# Altium integrated library Resistor 0805.IntLib: 58 symbols
Pins are listed as number, name and electrical type; pins without a type are passive.

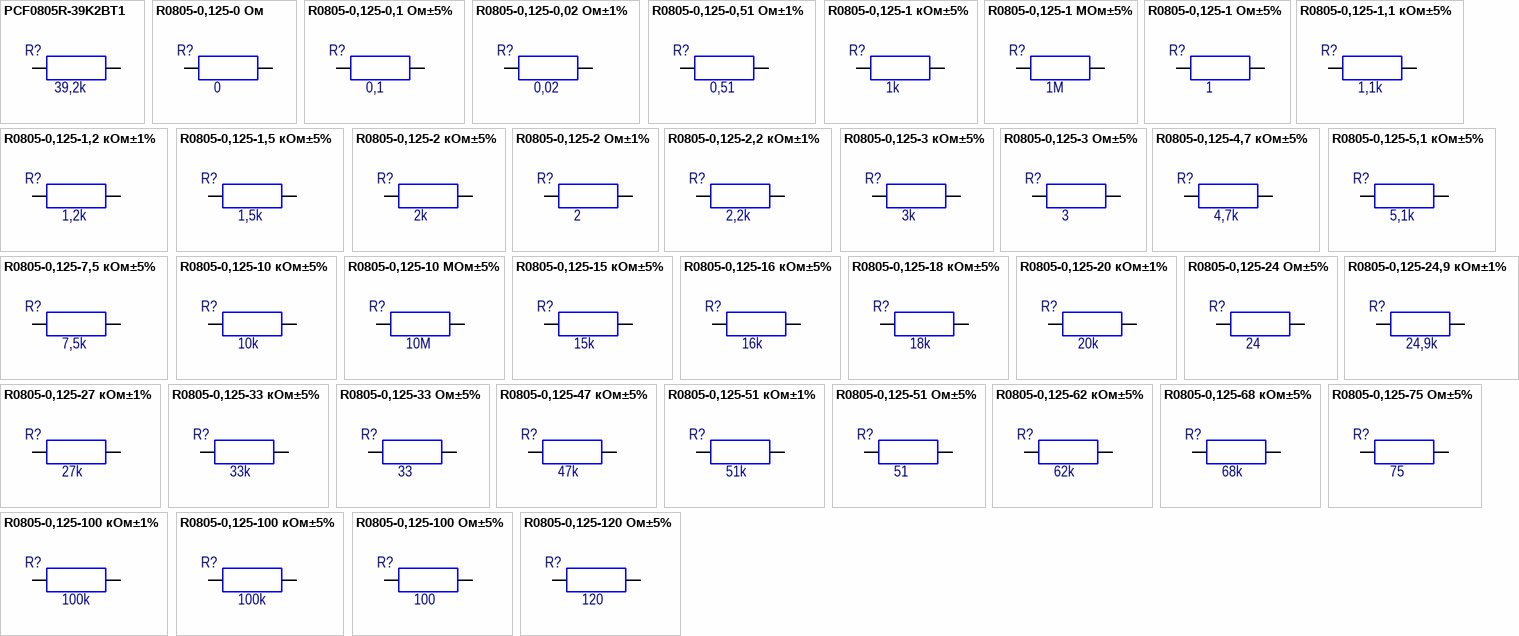
[diagram p0: symbols PCF0805R-39K2BT1 to R0805-0,125-120 Ом±5%]

## PCF0805R-39K2BT1
designator R?  value 39,2k  (hidden comment: PCF0805R-39K2BT1)
RES 39.2K OHM 0.1W 0805 0.1% SMD; Manufacturer: TT Electronics/Welwyn; Group: 9130; RegulationProcent: 10; TypeName: Резистор; Distributor: Mouser; DistributorPartNumber: 756-PCF0805R-39K2BT1; LatestRevisionDate: 09.07.2013; Library: Resistor 0805; ManufacturerPartNumber: PCF0805R-39K2BT1; Package: 2012 [0805]; Published: 08.07.2013; Publisher: Konon DI
footprint RESC2012N [0805] (Chip Resistor, Body 2.0x1.3mm, IPC Medium Density)
pins: 1, 2

## R0805-0,125-0 Ом
designator R?  value 0
RES SMD 0.0 OHM JUMPER 1/8W 0805; Manufacturer: Vishay Dale; ManufacturerPartNumber: CRCW08050000Z0; Group: 9130; RegulationProcent: 10; TypeName: Резистор; Distributor: Digi-Key; DistributorPartNumber: 541-0.0ACT-ND; LatestRevisionDate: 14.07.2017; Library: Resistor 0805; Package: 2012 [0805]; Published: 14.07.2017; Publisher: Stanchik A
footprint RESC2012N [0805] (Chip Resistor, Body 2.0x1.3mm, IPC Medium Density)
pins: 1, 2

## R0805-0,125-0,1 Ом±5%
designator R?  value 0,1
RES 0,1 OHM 1/3W 5% 0805 SMD; Manufacturer: Rohm Semiconductor; ManufacturerPartNumber: UCR10EVHJLR10; Group: 9130; RegulationProcent: 10; TypeName: Резистор; Distributor: Digi-Key; DistributorPartNumber: RHM.10BXDKR-ND; LatestRevisionDate: 29.11.2013; Library: Resistor 0805; Package: 2012 [0805]; Published: 29.11.2013; Publisher: Stanchik A
footprint RESC2012N [0805] (Chip Resistor, Body 2.0x1.3mm, IPC Medium Density)
pins: 1, 2

## R0805-0,125-0,02 Ом±1%
designator R?  value 0,02
RES SMD 0.02 OHM 1% 1/8W 0805; Manufacturer: Vishay Dale; ManufacturerPartNumber: WSL0805R0200F; Group: 9130; RegulationProcent: 10; TypeName: Резистор; Distributor: Digi-Key; DistributorPartNumber: WSLA-.02CT-ND; LatestRevisionDate: 16.07.2015; Library: Resistor 0805; Package: 2012 [0805]; Published: 16.07.2015; Publisher: Stanchik A
footprint RESC2012N [0805] (Chip Resistor, Body 2.0x1.3mm, IPC Medium Density)
pins: 1, 2

## R0805-0,125-0,51 Ом±1%
designator R?  value 0,51
RES SMD 0.51 OHM 1% 1/4W 0805; Manufacturer: Vishay Dale; ManufacturerPartNumber: RCWE0805R510FK; Group: 9130; RegulationProcent: 10; TypeName: Резистор; Distributor: Digi-Key; DistributorPartNumber: RCWE.51DCT-ND; LatestRevisionDate: 16.02.2016; Library: Resistor 0805; Package: 2012 [0805]; Published: 16.02.2016; Publisher: Stanchik A
footprint RESC2012N [0805] (Chip Resistor, Body 2.0x1.3mm, IPC Medium Density)
pins: 1, 2

## R0805-0,125-1 кОм±5%
designator R?  value 1k
RES 1.0K OHM 1/8W 5% 0805 SMD; Manufacturer: Vishay Dale; ManufacturerPartNumber: CRCW08051K00JN; Group: 9130; RegulationProcent: 10; TypeName: Резистор; Distributor: Digi-Key; DistributorPartNumber: 541-1.0KACT-ND; LatestRevisionDate: 10.07.2013; Library: Resistor 0805; Package: 2012 [0805]; Published: 10.07.2013; Publisher: Konon DI
footprint RESC2012N [0805] (Chip Resistor, Body 2.0x1.3mm, IPC Medium Density)
pins: 1, 2

## R0805-0,125-1 МОм±5%
designator R?  value 1M
RES SMD 1M OHM 5% 1/8W 0805; Manufacturer: Vishay Dale; ManufacturerPartNumber: CRCW08051M00JN; Group: 9130; RegulationProcent: 10; TypeName: Резистор; Distributor: Digi-Key; DistributorPartNumber: 541-1.0MACT-ND; LatestRevisionDate: 10.12.2015; Library: Resistor 0805; Package: 2012 [0805]; Published: 10.12.2015; Publisher: Stanchik A
footprint RESC2012N [0805] (Chip Resistor, Body 2.0x1.3mm, IPC Medium Density)
pins: 1, 2

## R0805-0,125-1 Ом±5%
designator R?  value 1
RES 1.0 OHM 1/8W 5% 0805 SMD; Manufacturer: Vishay Dale; ManufacturerPartNumber: CRCW08051R00JN; Group: 9130; RegulationProcent: 10; TypeName: Резистор; Distributor: Digi-Key; DistributorPartNumber: 541-1.0ADKR-ND; LatestRevisionDate: 22.07.2014; Library: Resistor 0805; Package: 2012 [0805]; Published: 22.07.2014; Publisher: Stanchik A
footprint RESC2012N [0805] (Chip Resistor, Body 2.0x1.3mm, IPC Medium Density)
pins: 1, 2

## R0805-0,125-1,1 кОм±5%
designator R?  value 1,1k
RES 1.1K OHM 1/8W 5% 0805 SMD; Manufacturer: Vishay Dale; ManufacturerPartNumber: CRCW08051K10JN; Group: 9130; RegulationProcent: 10; TypeName: Резистор; Distributor: Digi-Key; DistributorPartNumber: 541-1.1KACT-ND; LatestRevisionDate: 10.07.2013; Library: Resistor 0805; Package: 2012 [0805]; Published: 10.07.2013; Publisher: Konon DI
footprint RESC2012N [0805] (Chip Resistor, Body 2.0x1.3mm, IPC Medium Density)
pins: 1, 2

## R0805-0,125-1,2 кОм±1%
designator R?  value 1,2k
RES SMD 1.2K OHM 1% 1/8W 0805; Manufacturer: Vishay Dale; ManufacturerPartNumber: CRCW08051K20FK; Group: 9130; RegulationProcent: 10; TypeName: Резистор; Distributor: Digi-Key; DistributorPartNumber: 541-1.20KCCT-ND; LatestRevisionDate: 06.06.2017; Library: Resistor 0805; Package: 2012 [0805]; Published: 06.06.2017; Publisher: Stanchik A
footprint RESC2012N [0805] (Chip Resistor, Body 2.0x1.3mm, IPC Medium Density)
pins: 1, 2

## R0805-0,125-1,5 кОм±5%
designator R?  value 1,5k
RES SMD 1.5K OHM 5% 1/8W 0805; Manufacturer: Vishay Dale; ManufacturerPartNumber: CRCW08051K50JN; Group: 9130; RegulationProcent: 10; TypeName: Резистор; Distributor: Digi-Key; DistributorPartNumber: 541-1.5KACT-ND; LatestRevisionDate: 24.01.2017; Library: Resistor 0805; Package: 2012 [0805]; Published: 24.01.2017; Publisher: Stanchik A
footprint RESC2012N [0805] (Chip Resistor, Body 2.0x1.3mm, IPC Medium Density)
pins: 1, 2

## R0805-0,125-2 кОм±5%
designator R?  value 2k
RES 2.0K OHM 1/8W 5% 0805 SMD; Manufacturer: Vishay Dale; ManufacturerPartNumber: CRCW08052K00JN; Group: 9130; RegulationProcent: 10; TypeName: Резистор; Distributor: Digi-Key; DistributorPartNumber: 541-2.0KADKR-ND; LatestRevisionDate: 06.08.2014; Library: Resistor 0805; Package: 2012 [0805]; Published: 06.08.2014; Publisher: Stanchik A
footprint RESC2012N [0805] (Chip Resistor, Body 2.0x1.3mm, IPC Medium Density)
pins: 1, 2

## R0805-0,125-2 Ом±1%
designator R?  value 2
RES 2.00 OHM 1/8W 1% 0805 SMD; Manufacturer: Vishay Dale; ManufacturerPartNumber: CRCW08052R00FK; Group: 9130; RegulationProcent: 10; TypeName: Резистор; Distributor: Digi-Key; DistributorPartNumber: 541-2.00CCDKR-ND; LatestRevisionDate: 09.07.2014; Library: Resistor 0805; Package: 2012 [0805]; Published: 09.07.2014; Publisher: Stanchik A
footprint RESC2012N [0805] (Chip Resistor, Body 2.0x1.3mm, IPC Medium Density)
pins: 1, 2

## R0805-0,125-2,2 кОм±1%
designator R?  value 2,2k
RES SMD 2.2K OHM 1% 1/8W 0805; Manufacturer: Vishay Dale; ManufacturerPartNumber: CRCW08052K20FK; Group: 9130; RegulationProcent: 10; TypeName: Резистор; Distributor: Digi-Key; DistributorPartNumber: 541-2.20KCCT-ND; LatestRevisionDate: 22.12.2016; Library: Resistor 0805; Package: 2012 [0805]; Published: 22.12.2016; Publisher: Stanchik A
footprint RESC2012N [0805] (Chip Resistor, Body 2.0x1.3mm, IPC Medium Density)
pins: 1, 2

## R0805-0,125-3 кОм±5%
designator R?  value 3k
RES SMD 3K OHM 5% 1/8W 0805; Manufacturer: Vishay Dale; ManufacturerPartNumber: CRCW08053K00JN; Group: 9130; RegulationProcent: 10; TypeName: Резистор; Distributor: Digi-Key; DistributorPartNumber: 541-3.0KACT-ND; LatestRevisionDate: 24.01.2017; Library: Resistor 0805; Package: 2012 [0805]; Published: 24.01.2017; Publisher: Stanchik A
footprint RESC2012N [0805] (Chip Resistor, Body 2.0x1.3mm, IPC Medium Density)
pins: 1, 2

## R0805-0,125-3 Ом±5%
designator R?  value 3
RES 3.0 OHM 1/8W 5% 0805 SMD; Manufacturer: Vishay Dale; ManufacturerPartNumber: CRCW08053R00JN; Group: 9130; RegulationProcent: 10; TypeName: Резистор; Distributor: Digi-Key; DistributorPartNumber: 541-3.0ADKR-ND; LatestRevisionDate: 09.07.2014; Library: Resistor 0805; Package: 2012 [0805]; Published: 09.07.2014; Publisher: Stanchik A
footprint RESC2012N [0805] (Chip Resistor, Body 2.0x1.3mm, IPC Medium Density)
pins: 1, 2

## R0805-0,125-4,7 кОм±5%
designator R?  value 4,7k
RES 4,7K OHM 0,33W 5% 0805 SMD; Manufacturer: Vishay Dale; ManufacturerPartNumber: CRCW08054K70JN; Group: 9130; RegulationProcent: 10; TypeName: Резистор; Distributor: Digi-Key; DistributorPartNumber: 541-4.7KTADKR-ND; LatestRevisionDate: 29.11.2013; Library: Resistor 0805; Package: 2012 [0805]; Published: 29.11.2013; Publisher: Stanchik A
footprint RESC2012N [0805] (Chip Resistor, Body 2.0x1.3mm, IPC Medium Density)
pins: 1, 2

## R0805-0,125-5,1 кОм±5%
designator R?  value 5,1k
RES 5.1K OHM 1/8W 5% 0805 SMD; Manufacturer: Vishay Dale; ManufacturerPartNumber: CRCW08055K10JN; Group: 9130; RegulationProcent: 10; TypeName: Резистор; Distributor: Digi-Key; DistributorPartNumber: 541-5.1KADKR-ND; LatestRevisionDate: 09.07.2014; Library: Resistor 0805; Package: 2012 [0805]; Published: 09.07.2014; Publisher: Stanchik A
footprint RESC2012N [0805] (Chip Resistor, Body 2.0x1.3mm, IPC Medium Density)
pins: 1, 2

## R0805-0,125-7,5 кОм±5%
designator R?  value 7,5k
RES SMD 7.5K OHM 5% 1/8W 0805; Manufacturer: Vishay Dale; ManufacturerPartNumber: CRCW08057K50JN; Group: 9130; RegulationProcent: 10; TypeName: Резистор; Distributor: Digi-Key; DistributorPartNumber: 541-7.5KACT-ND; LatestRevisionDate: 06.06.2017; Library: Resistor 0805; Package: 2012 [0805]; Published: 06.06.2017; Publisher: Stanchik A
footprint RESC2012N [0805] (Chip Resistor, Body 2.0x1.3mm, IPC Medium Density)
pins: 1, 2

## R0805-0,125-10 кОм±5%
designator R?  value 10k
RES 10K OHM 1/8W 5% 0805 SMD; Manufacturer: Vishay Dale; ManufacturerPartNumber: CRCW080510K0JN; Group: 9130; RegulationProcent: 10; TypeName: Резистор; Distributor: Digi-Key; DistributorPartNumber: 541-10KADKR-ND; LatestRevisionDate: 09.07.2014; Library: Resistor 0805; Package: 2012 [0805]; Published: 09.07.2014; Publisher: Stanchik A
footprint RESC2012N [0805] (Chip Resistor, Body 2.0x1.3mm, IPC Medium Density)
pins: 1, 2

## R0805-0,125-10 МОм±5%
designator R?  value 10M
RES SMD 10M OHM 5% 1/8W 0805; Manufacturer: Vishay Dale; ManufacturerPartNumber: CRCW080510M0JN; Group: 9130; RegulationProcent: 10; TypeName: Резистор; Distributor: Digi-Key; DistributorPartNumber: 541-10MACT-ND; LatestRevisionDate: 22.02.2016; Library: Resistor 0805; Package: 2012 [0805]; Published: 22.02.2016; Publisher: Stanchik A
footprint RESC2012N [0805] (Chip Resistor, Body 2.0x1.3mm, IPC Medium Density)
pins: 1, 2

## R0805-0,125-15 кОм±5%
designator R?  value 15k
RES 15K OHM 1/8W 5% 0805 SMD; Manufacturer: Vishay Dale; ManufacturerPartNumber: CRCW080515K0JN; Group: 9130; RegulationProcent: 10; TypeName: Резистор; Distributor: Digi-Key; DistributorPartNumber: 541-15KADKR-ND; LatestRevisionDate: 05.08.2014; Library: Resistor 0805; Package: 2012 [0805]; Published: 05.08.2014; Publisher: Stanchik A
footprint RESC2012N [0805] (Chip Resistor, Body 2.0x1.3mm, IPC Medium Density)
pins: 1, 2

## R0805-0,125-16 кОм±5%
designator R?  value 16k
RES SMD 16K OHM 5% 1/8W 0805; Manufacturer: Vishay Dale; ManufacturerPartNumber: CRCW080516K0JN; Group: 9130; RegulationProcent: 10; TypeName: Резистор; Distributor: Digi-Key; DistributorPartNumber: 541-16KACT-ND; LatestRevisionDate: 18.09.2017; Library: Resistor 0805; Package: 2012 [0805]; Published: 18.09.2017; Publisher: Stanchik A
footprint RESC2012N [0805] (Chip Resistor, Body 2.0x1.3mm, IPC Medium Density)
pins: 1, 2

## R0805-0,125-18 кОм±5%
designator R?  value 18k
RES 18K OHM 1/8W 5% 0805 SMD; Manufacturer: Vishay Dale; ManufacturerPartNumber: CRCW080518K0JN; Group: 9130; RegulationProcent: 10; TypeName: Резистор; Distributor: Digi-Key; DistributorPartNumber: 541-18KADKR-ND; LatestRevisionDate: 05.08.2014; Library: Resistor 0805; Package: 2012 [0805]; Published: 05.08.2014; Publisher: Stanchik A
footprint RESC2012N [0805] (Chip Resistor, Body 2.0x1.3mm, IPC Medium Density)
pins: 1, 2

## R0805-0,125-20 кОм±1%
designator R?  value 20k
RES SMD 20K OHM 1% 1/8W 0805; Manufacturer: Vishay Dale; ManufacturerPartNumber: CRCW080520K0FK; Group: 9130; RegulationProcent: 10; TypeName: Резистор; Distributor: Digi-Key; DistributorPartNumber: 541-20.0KCCT-ND; LatestRevisionDate: 22.09.2016; Library: Resistor 0805; Package: 2012 [0805]; Published: 22.09.2016; Publisher: Stanchik A
footprint RESC2012N [0805] (Chip Resistor, Body 2.0x1.3mm, IPC Medium Density)
pins: 1, 2

## R0805-0,125-24 Ом±5%
designator R?  value 24
RES SMD 24 OHM 5% 1/8W 0805; Manufacturer: Vishay Dale; ManufacturerPartNumber: CRCW080524R0JN; Group: 9130; RegulationProcent: 10; TypeName: Резистор; Distributor: Digi-Key; DistributorPartNumber: 541-24ACT-ND; LatestRevisionDate: 24.01.2017; Library: Resistor 0805; Package: 2012 [0805]; Published: 24.01.2017; Publisher: Stanchik A
footprint RESC2012N [0805] (Chip Resistor, Body 2.0x1.3mm, IPC Medium Density)
pins: 1, 2

## R0805-0,125-24,9 кОм±1%
designator R?  value 24,9k
RES 24.9K OHM 1/8W 1% 0805 SMD; Manufacturer: Vishay Dale; ManufacturerPartNumber: CRCW080524K9FK; Group: 9130; RegulationProcent: 10; TypeName: Резистор; Distributor: Digi-Key; DistributorPartNumber: 541-24.9KCDKR-ND; LatestRevisionDate: 05.08.2014; Library: Resistor 0805; Package: 2012 [0805]; Published: 05.08.2014; Publisher: Stanchik A
footprint RESC2012N [0805] (Chip Resistor, Body 2.0x1.3mm, IPC Medium Density)
pins: 1, 2

## R0805-0,125-27 кОм±1%
designator R?  value 27k
RES SMD 27K OHM 1% 1/8W 0805; Manufacturer: Vishay Dale; ManufacturerPartNumber: CRCW080527K0FK; Group: 9130; RegulationProcent: 10; TypeName: Резистор; Distributor: Digi-Key; DistributorPartNumber: 541-27.0KCCT-ND; LatestRevisionDate: 06.06.2017; Library: Resistor 0805; Package: 2012 [0805]; Published: 06.06.2017; Publisher: Stanchik A
footprint RESC2012N [0805] (Chip Resistor, Body 2.0x1.3mm, IPC Medium Density)
pins: 1, 2

## R0805-0,125-33 кОм±5%
designator R?  value 33k
RES 33K OHM 1/8W 5% 0805 SMD; Manufacturer: Vishay Dale; ManufacturerPartNumber: CRCW080533K0JN; Group: 9130; RegulationProcent: 10; TypeName: Резистор; Distributor: Digi-Key; DistributorPartNumber: 541-33KADKR-ND; LatestRevisionDate: 22.07.2014; Library: Resistor 0805; Package: 2012 [0805]; Published: 22.07.2014; Publisher: Stanchik A
footprint RESC2012N [0805] (Chip Resistor, Body 2.0x1.3mm, IPC Medium Density)
pins: 1, 2

## R0805-0,125-33 Ом±5%
designator R?  value 33
RES 33 OHM 1/8W 5% 0805 SMD; Manufacturer: Vishay Dale; ManufacturerPartNumber: CRCW080533R0JN; Group: 9130; RegulationProcent: 10; TypeName: Резистор; Distributor: Digi-Key; DistributorPartNumber: 541-33ADKR-ND; LatestRevisionDate: 29.11.2013; Library: Resistor 0805; Package: 2012 [0805]; Published: 29.11.2013; Publisher: Stanchik A
footprint RESC2012N [0805] (Chip Resistor, Body 2.0x1.3mm, IPC Medium Density)
pins: 1, 2

## R0805-0,125-47 кОм±5%
designator R?  value 47k
RES 47K OHM 1/8W 5% 0805 SMD; Manufacturer: Vishay Dale; ManufacturerPartNumber: CRCW080547K0JN; Group: 9130; RegulationProcent: 10; TypeName: Резистор; Distributor: Digi-Key; DistributorPartNumber: 541-47KADKR-ND; LatestRevisionDate: 06.08.2014; Library: Resistor 0805; Package: 2012 [0805]; Published: 06.08.2014; Publisher: Stanchik A
footprint RESC2012N [0805] (Chip Resistor, Body 2.0x1.3mm, IPC Medium Density)
pins: 1, 2

## R0805-0,125-51 кОм±1%
designator R?  value 51k
RES 51.0K OHM 1/8W 1% 0805 SMD; Manufacturer: Vishay Dale; ManufacturerPartNumber: CRCW080551K0FK; Group: 9130; RegulationProcent: 10; TypeName: Резистор; Distributor: Digi-Key; DistributorPartNumber: 541-51.0KCDKR-ND; LatestRevisionDate: 06.08.2014; Library: Resistor 0805; Package: 2012 [0805]; Published: 06.08.2014; Publisher: Stanchik A
footprint RESC2012N [0805] (Chip Resistor, Body 2.0x1.3mm, IPC Medium Density)
pins: 1, 2

## R0805-0,125-51 Ом±5%
designator R?  value 51
RES SMD 51 OHM 5% 1/8W 0805; Manufacturer: Vishay Dale; ManufacturerPartNumber: CRCW080551R0JN; Group: 9130; RegulationProcent: 10; TypeName: Резистор; Distributor: Digi-Key; DistributorPartNumber: 541-51ACT-ND; LatestRevisionDate: 24.01.2017; Library: Resistor 0805; Package: 2012 [0805]; Published: 24.01.2017; Publisher: Stanchik A
footprint RESC2012N [0805] (Chip Resistor, Body 2.0x1.3mm, IPC Medium Density)
pins: 1, 2

## R0805-0,125-62 кОм±5%
designator R?  value 62k
RES 62K OHM 1/8W 5% 0805 SMD; Manufacturer: Vishay Dale; ManufacturerPartNumber: CRCW080562K0JN; Group: 9130; RegulationProcent: 10; TypeName: Резистор; Distributor: Digi-Key; DistributorPartNumber: 541-62KADKR-ND; LatestRevisionDate: 05.08.2014; Library: Resistor 0805; Package: 2012 [0805]; Published: 05.08.2014; Publisher: Stanchik A
footprint RESC2012N [0805] (Chip Resistor, Body 2.0x1.3mm, IPC Medium Density)
pins: 1, 2

## R0805-0,125-68 кОм±5%
designator R?  value 68k
RES 68K OHM 1/8W 5% 0805 SMD; Manufacturer: Vishay Dale; ManufacturerPartNumber: CRCW080568K0JN; Group: 9130; RegulationProcent: 10; TypeName: Резистор; Distributor: Digi-Key; DistributorPartNumber: 541-68KADKR-ND; LatestRevisionDate: 09.07.2014; Library: Resistor 0805; Package: 2012 [0805]; Published: 09.07.2014; Publisher: Stanchik A
footprint RESC2012N [0805] (Chip Resistor, Body 2.0x1.3mm, IPC Medium Density)
pins: 1, 2

## R0805-0,125-75 Ом±5%
designator R?  value 75
RES 75 OHM 1/8W 5% 0805 SMD; Manufacturer: Vishay Dale; ManufacturerPartNumber: CRCW080575R0JN; Group: 9130; RegulationProcent: 10; TypeName: Резистор; Distributor: Digi-Key; DistributorPartNumber: 541-75ADKR-ND; LatestRevisionDate: 09.07.2014; Library: Resistor 0805; Package: 2012 [0805]; Published: 09.07.2014; Publisher: Stanchik A
footprint RESC2012N [0805] (Chip Resistor, Body 2.0x1.3mm, IPC Medium Density)
pins: 1, 2

## R0805-0,125-100 кОм±1%
designator R?  value 100k
RES 100K OHM 1/8W 1% 0805 SMD; Manufacturer: Vishay Dale; ManufacturerPartNumber: CRCW0805100KFK; Group: 9130; RegulationProcent: 10; TypeName: Резистор; Distributor: Digi-Key; DistributorPartNumber: 541-100KCDKR-ND; LatestRevisionDate: 05.08.2014; Library: Resistor 0805; Package: 2012 [0805]; Published: 05.08.2014; Publisher: Stanchik A
footprint RESC2012N [0805] (Chip Resistor, Body 2.0x1.3mm, IPC Medium Density)
pins: 1, 2

## R0805-0,125-100 кОм±5%
designator R?  value 100k
RES 100K OHM 1/8W 5% 0805 SMD; Manufacturer: Vishay Dale; ManufacturerPartNumber: CRCW0805100KJN; Group: 9130; RegulationProcent: 10; TypeName: Резистор; Distributor: Digi-Key; DistributorPartNumber: 541-100KADKR-ND; LatestRevisionDate: 06.08.2014; Library: Resistor 0805; Package: 2012 [0805]; Published: 06.08.2014; Publisher: Stanchik A
footprint RESC2012N [0805] (Chip Resistor, Body 2.0x1.3mm, IPC Medium Density)
pins: 1, 2

## R0805-0,125-100 Ом±5%
designator R?  value 100
RES 100 OHM 1/8W 5% 0805 SMD; Manufacturer: Vishay Dale; ManufacturerPartNumber: CRCW0805100RJN; Group: 9130; RegulationProcent: 10; TypeName: Резистор; Distributor: Digi-Key; DistributorPartNumber: 541-100ADKR-ND; LatestRevisionDate: 09.07.2014; Library: Resistor 0805; Package: 2012 [0805]; Published: 09.07.2014; Publisher: Stanchik A
footprint RESC2012N [0805] (Chip Resistor, Body 2.0x1.3mm, IPC Medium Density)
pins: 1, 2

## R0805-0,125-120 Ом±5%
designator R?  value 120
RES 120 OHM 1/8W 5% 0805 SMD; Manufacturer: Vishay Dale; ManufacturerPartNumber: CRCW0805120RJN; Group: 9130; RegulationProcent: 10; TypeName: Резистор; Distributor: Digi-Key; DistributorPartNumber: 541-120ADKR-ND; LatestRevisionDate: 29.11.2013; Library: Resistor 0805; Package: 2012 [0805]; Published: 29.11.2013; Publisher: Stanchik A
footprint RESC2012N [0805] (Chip Resistor, Body 2.0x1.3mm, IPC Medium Density)
pins: 1, 2

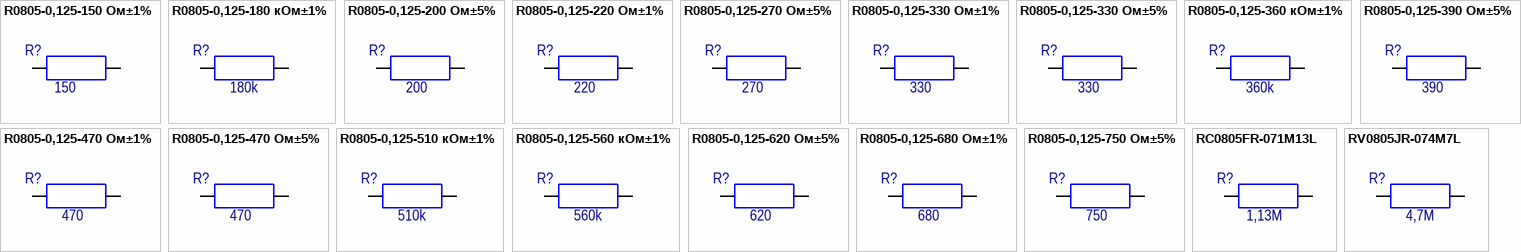
[diagram p1: symbols R0805-0,125-150 Ом±1% to RV0805JR-074M7L]

## R0805-0,125-150 Ом±1%
designator R?, comment value 150  (hidden comment: CRCW0805150RFK)
RES SMD 150 OHM 1% 1/8W 0805; Manufacturer: Vishay Dale; Group: 9130; RegulationProcent: 10; TypeName: Резистор; Distributor: Digi-Key; DistributorPartNumber: 541-150CCT-ND; LatestRevisionDate: 18.03.2015; Library: Resistor 0805; ManufacturerPartNumber: CRCW0805150RFK; Package: 2012 [0805]; Published: 18.03.2015; Publisher: Stanchik A
footprint RESC2012N [0805] (Chip Resistor, Body 2.0x1.3mm, IPC Medium Density)
pins: 1, 2

## R0805-0,125-180 кОм±1%
designator R?  value 180k
RES 180K OHM 1/8W 1% 0805 SMD; Manufacturer: Vishay Dale; ManufacturerPartNumber: CRCW0805180KFK; Group: 9130; RegulationProcent: 10; TypeName: Резистор; Distributor: Digi-Key; DistributorPartNumber: 541-180KCDKR-ND; LatestRevisionDate: 11.08.2014; Library: Resistor 0805; Package: 2012 [0805]; Published: 11.08.2014; Publisher: Stanchik A
footprint RESC2012N [0805] (Chip Resistor, Body 2.0x1.3mm, IPC Medium Density)
pins: 1, 2

## R0805-0,125-200 Ом±5%
designator R?  value 200
RES SMD 200 OHM 5% 1/8W 0805; Manufacturer: Vishay Dale; ManufacturerPartNumber: CRCW0805200RJN; Group: 9130; RegulationProcent: 10; TypeName: Резистор; Distributor: Digi-Key; DistributorPartNumber: 541-200ACT-ND; LatestRevisionDate: 24.01.2017; Library: Resistor 0805; Package: 2012 [0805]; Published: 24.01.2017; Publisher: Stanchik A
footprint RESC2012N [0805] (Chip Resistor, Body 2.0x1.3mm, IPC Medium Density)
pins: 1, 2

## R0805-0,125-220 Ом±1%
designator R?  value 220
RES SMD 220 OHM 1% 1/8W 0805; Manufacturer: Vishay Dale; ManufacturerPartNumber: CRCW0805220RFK; Group: 9130; RegulationProcent: 10; TypeName: Резистор; Distributor: Digi-Key; DistributorPartNumber: 541-220CCT-ND; LatestRevisionDate: 08.12.2015; Library: Resistor 0805; Package: 2012 [0805]; Published: 08.12.2015; Publisher: Stanchik A
footprint RESC2012N [0805] (Chip Resistor, Body 2.0x1.3mm, IPC Medium Density)
pins: 1, 2

## R0805-0,125-270 Ом±5%
designator R?  value 270
RES 270 OHM 1/8W 5% 0805 SMD; Manufacturer: Vishay Dale; ManufacturerPartNumber: CRCW0805270RJN; Group: 9130; RegulationProcent: 10; TypeName: Резистор; Distributor: Digi-Key; DistributorPartNumber: 541-270ADKR-ND; LatestRevisionDate: 29.11.2013; Library: Resistor 0805; Package: 2012 [0805]; Published: 29.11.2013; Publisher: Stanchik A
footprint RESC2012N [0805] (Chip Resistor, Body 2.0x1.3mm, IPC Medium Density)
pins: 1, 2

## R0805-0,125-330 Ом±1%
designator R?  value 330
RES SMD 330 OHM 1% 1/8W 0805; Manufacturer: Vishay Dale; ManufacturerPartNumber: CRCW0805330RFK; Group: 9130; RegulationProcent: 10; TypeName: Резистор; Distributor: Digi-Key; DistributorPartNumber: 541-330CCT-ND; LatestRevisionDate: 08.12.2015; Library: Resistor 0805; Package: 2012 [0805]; Published: 08.12.2015; Publisher: Stanchik A
footprint RESC2012N [0805] (Chip Resistor, Body 2.0x1.3mm, IPC Medium Density)
pins: 1, 2

## R0805-0,125-330 Ом±5%
designator R?  value 330
RES 330 OHM 1/8W 5% 0805 SMD; Manufacturer: Vishay Dale; ManufacturerPartNumber: CRCW0805330RJN; Group: 9130; RegulationProcent: 10; TypeName: Резистор; Distributor: Digi-Key; DistributorPartNumber: 541-330ADKR-ND; LatestRevisionDate: 29.11.2013; Library: Resistor 0805; Package: 2012 [0805]; Published: 29.11.2013; Publisher: Stanchik A
footprint RESC2012N [0805] (Chip Resistor, Body 2.0x1.3mm, IPC Medium Density)
pins: 1, 2

## R0805-0,125-360 кОм±1%
designator R?  value 360k
RES 360K OHM 1/8W 1% 0805 SMD; Manufacturer: Vishay Dale; ManufacturerPartNumber: CRCW0805360KFK; Group: 9130; RegulationProcent: 10; TypeName: Резистор; Distributor: Digi-Key; DistributorPartNumber: 541-360KCDKR-ND; LatestRevisionDate: 05.08.2014; Library: Resistor 0805; Package: 2012 [0805]; Published: 05.08.2014; Publisher: Stanchik A
footprint RESC2012N [0805] (Chip Resistor, Body 2.0x1.3mm, IPC Medium Density)
pins: 1, 2

## R0805-0,125-390 Ом±5%
designator R?  value 390
RES SMD 390 OHM 5% 1/8W 0805; Manufacturer: Vishay Dale; ManufacturerPartNumber: CRCW0805390RJN; Group: 9130; RegulationProcent: 10; TypeName: Резистор; Distributor: Digi-Key; DistributorPartNumber: 541-390ACT-ND; LatestRevisionDate: 24.01.2017; Library: Resistor 0805; Package: 2012 [0805]; Published: 24.01.2017; Publisher: Stanchik A
footprint RESC2012N [0805] (Chip Resistor, Body 2.0x1.3mm, IPC Medium Density)
pins: 1, 2

## R0805-0,125-470 Ом±1%
designator R?  value 470
RES SMD 470 OHM 1% 1/8W 0805; Manufacturer: Vishay Dale; ManufacturerPartNumber: CRCW0805470RFK; Group: 9130; RegulationProcent: 10; TypeName: Резистор; Distributor: Digi-Key; DistributorPartNumber: 541-470CCT-ND; LatestRevisionDate: 08.12.2015; Library: Resistor 0805; Package: 2012 [0805]; Published: 08.12.2015; Publisher: Stanchik A
footprint RESC2012N [0805] (Chip Resistor, Body 2.0x1.3mm, IPC Medium Density)
pins: 1, 2

## R0805-0,125-470 Ом±5%
designator R?  value 470
RES 470 OHM 1/8W 5% 0805 SMD; Manufacturer: Vishay Dale; ManufacturerPartNumber: CRCW0805470RJN; Group: 9130; RegulationProcent: 10; TypeName: Резистор; Distributor: Digi-Key; DistributorPartNumber: 541-470ADKR-ND; LatestRevisionDate: 29.11.2013; Library: Resistor 0805; Package: 2012 [0805]; Published: 29.11.2013; Publisher: Stanchik A
footprint RESC2012N [0805] (Chip Resistor, Body 2.0x1.3mm, IPC Medium Density)
pins: 1, 2

## R0805-0,125-510 кОм±1%
designator R?  value 510k
RES 510K OHM 1/8W 1% 0805 SMD; Manufacturer: Vishay Dale; ManufacturerPartNumber: CRCW0805510KFK; Group: 9130; RegulationProcent: 10; TypeName: Резистор; Distributor: Digi-Key; DistributorPartNumber: 541-510KCDKR-ND; LatestRevisionDate: 05.08.2014; Library: Resistor 0805; Package: 2012 [0805]; Published: 05.08.2014; Publisher: Stanchik A
footprint RESC2012N [0805] (Chip Resistor, Body 2.0x1.3mm, IPC Medium Density)
pins: 1, 2

## R0805-0,125-560 кОм±1%
designator R?  value 560k
RES 560K OHM 1/8W 1% 0805 SMD; Manufacturer: Vishay Dale; ManufacturerPartNumber: CRCW0805560KFK; Group: 9130; RegulationProcent: 10; TypeName: Резистор; Distributor: Digi-Key; DistributorPartNumber: 541-560KCDKR-ND; LatestRevisionDate: 11.08.2014; Library: Resistor 0805; Package: 2012 [0805]; Published: 11.08.2014; Publisher: Stanchik A
footprint RESC2012N [0805] (Chip Resistor, Body 2.0x1.3mm, IPC Medium Density)
pins: 1, 2

## R0805-0,125-620 Ом±5%
designator R?  value 620
RES SMD 620 OHM 5% 1/8W 0805; Manufacturer: Vishay Dale; ManufacturerPartNumber: CRCW0805620RJN; Group: 9130; RegulationProcent: 10; TypeName: Резистор; Distributor: Digi-Key; DistributorPartNumber: 541-620ACT-ND; LatestRevisionDate: 09.02.2018; Library: Resistor 0805; Package: 2012 [0805]; Published: 09.02.2018; Publisher: Stanchik A
footprint RESC2012N [0805] (Chip Resistor, Body 2.0x1.3mm, IPC Medium Density)
pins: 1, 2

## R0805-0,125-680 Ом±1%
designator R?  value 680
RES SMD 680 OHM 1% 1/8W 0805; Manufacturer: Vishay Dale; ManufacturerPartNumber: CRCW0805680RFK; Group: 9130; RegulationProcent: 10; TypeName: Резистор; Distributor: Digi-Key; DistributorPartNumber: 541-680CCT-ND; LatestRevisionDate: 08.12.2015; Library: Resistor 0805; Package: 2012 [0805]; Published: 08.12.2015; Publisher: Stanchik A
footprint RESC2012N [0805] (Chip Resistor, Body 2.0x1.3mm, IPC Medium Density)
pins: 1, 2

## R0805-0,125-750 Ом±5%
designator R?  value 750
RES SMD 750 OHM 5% 1/8W 0805; Manufacturer: Vishay Dale; ManufacturerPartNumber: CRCW0805750RJN; Group: 9130; RegulationProcent: 10; TypeName: Резистор; Distributor: Digi-Key; DistributorPartNumber: 541-750ACT-ND; LatestRevisionDate: 24.01.2017; Library: Resistor 0805; Package: 2012 [0805]; Published: 24.01.2017; Publisher: Stanchik A
footprint RESC2012N [0805] (Chip Resistor, Body 2.0x1.3mm, IPC Medium Density)
pins: 1, 2

## RC0805FR-071M13L
designator R?  value 1,13M
RES 1.13M OHM 1/8W 1% 0805 SMD; Manufacturer: Yageo; ManufacturerPartNumber: RC0805FR-071M13L; Group: 9130; RegulationProcent: 10; TypeName: Резистор; Distributor: Digi-Key; DistributorPartNumber: 311-1.13MCRCT-ND; LatestRevisionDate: 09.07.2013; Library: Resistor 0805; Package: 2012 [0805]; Published: 15.03.13; Publisher: Auchinik DA
footprint RESC2012N [0805] (Chip Resistor, Body 2.0x1.3mm, IPC Medium Density)
pins: 1, 2

## RV0805JR-074M7L
designator R?  value 4,7M  (hidden comment: RV0805JR-074M7L)
RES 4.7M OHM 5% 0805 TF; Manufacturer: Yageo; Group: 9130; RegulationProcent: 10; TypeName: Резистор; Distributor: Farnell; DistributorPartNumber: 1376999; LatestRevisionDate: 09.07.2013; Library: Resistor 0805; ManufacturerPartNumber: RV0805JR-074M7L; Package: 2012 [0805]; Published: 08.07.2013; Publisher: Konon DI
footprint RESC2012N [0805] (Chip Resistor, Body 2.0x1.3mm, IPC Medium Density)
pins: 1, 2